# Altium footprint library CNCLib.PcbLib: 34 footprints (part 2 of 3)
Each footprint in its own frame and in the unit in brackets; x right, y up, seen from the top. Pads: shape width x height; smd on the part's side, far side on the other; paste and mask are expansions set on the pad; w line width, h text height; cw(c..) or ccw(c..) is an arc to the next point about the centre after c.
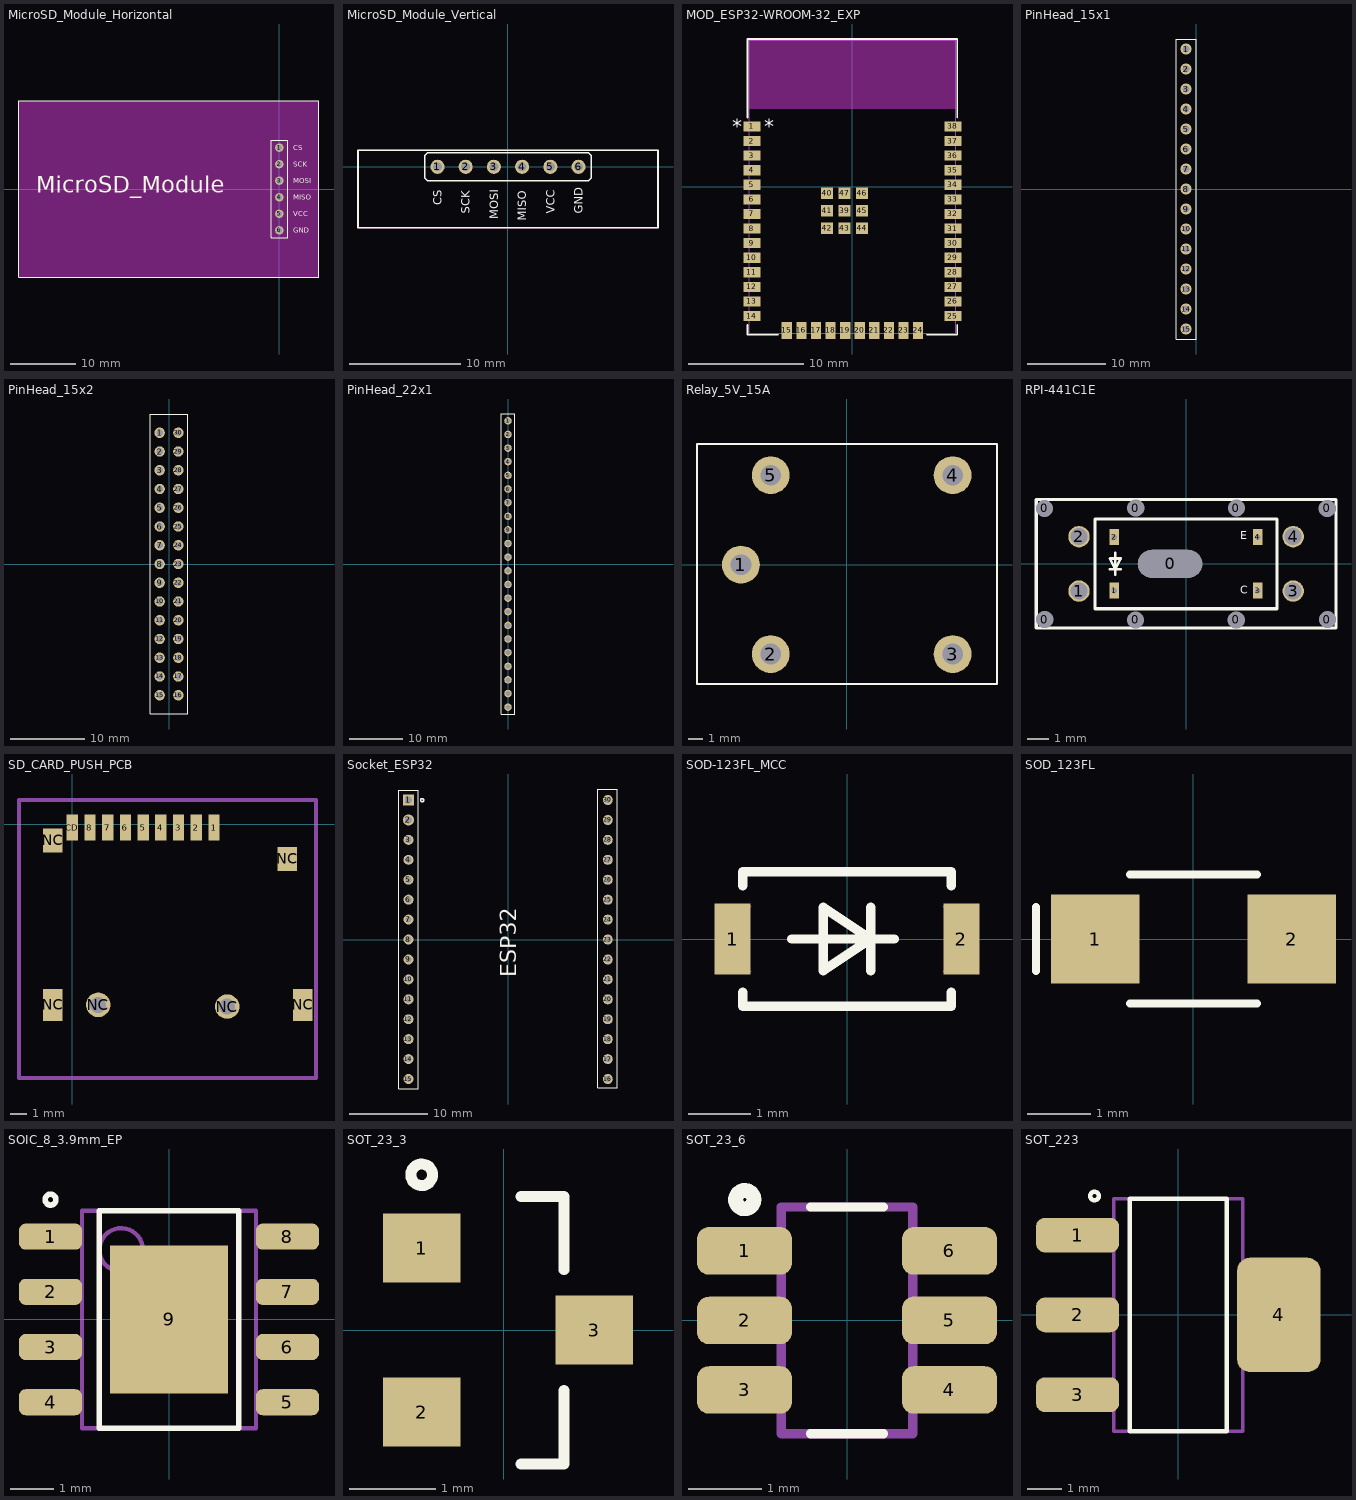
[diagram p1: the footprints below, top view; thin cyan lines are the x and y axes]

## MicroSD_Module_Horizontal [mm]
pads (6):
  round 1.27 hole 0.8: 1(0,6.35) 2(0,3.81) 3(0,1.27) 4(0,-1.27) 5(0,-3.81) 6(0,-6.35)
Top Overlay:
  lines w0.152: -40.005,-13.589 6.096,-13.589 6.096,13.589 -40.005,13.589 -40.005,-13.589 ; -1.27,-7.493 1.27,-7.493 1.27,7.493 -1.27,7.493 -1.27,-7.493
  text "GND" at 2.127,-6.731 h0.76
  text "VCC" at 2.127,-4.191 h0.76
  text "MISO" at 2.127,-1.651 h0.76
  text "MOSI" at 2.127,0.889 h0.76
  text "SCK" at 2.127,3.429 h0.76
  text "CS" at 2.127,5.969 h0.76
  text "MicroSD_Module" at -37.338,-0.593 h2.54
Keep-Out Layer:
  rectangle: -40,-13.5 6,13.5

## MicroSD_Module_Vertical [mm]
pads (6):
  round 1.27 hole 0.8: 1(-6.35,0) 2(-3.81,0) 3(-1.27,0) 4(1.27,0) 5(3.81,0) 6(6.35,0)
Top Overlay:
  lines w0.152: -13.5,-5.5 13.5,-5.5 13.5,1.5 -13.5,1.5 -13.5,-5.5 ; -7.493,-1.016 -7.239,-1.27 7.239,-1.27 7.493,-1.016 7.493,1.016 7.239,1.27 -7.239,1.27 -7.493,1.016 -7.493,-1.016
  text "CS" at -5.969,-3.461 h0.76
  text "SCK" at -3.429,-4.223 h0.76
  text "MOSI" at -0.889,-4.731 h0.76
  text "MISO" at 1.651,-4.858 h0.76
  text "VCC" at 4.191,-4.223 h0.76
  text "GND" at 6.731,-4.223 h0.76
Keep-Out Layer:
  lines w0.152: -13.5,-5.5 13.5,-5.5 13.5,1.5 -13.5,1.5 -13.5,-5.5

## MOD_ESP32-WROOM-32_EXP [mil]
pads (47):
  rect 59x35 smd paste+0 mask+0: 1(-344.49,207.09) 2(-344.49,157.09) 3(-344.49,107.09) 4(-344.49,57.09) 5(-344.49,7.09) 6(-344.49,-42.91) 7(-344.49,-92.91) 8(-344.49,-142.91) 9(-344.49,-192.91) 10(-344.49,-242.91) 11(-344.49,-292.91) 12(-344.49,-342.91) 13(-344.49,-392.91) 14(-344.49,-442.91) 25(344.49,-442.91) 26(344.49,-392.91) 27(344.49,-342.91) 28(344.49,-292.91) 29(344.49,-242.91) 30(344.49,-192.91) 31(344.49,-142.91) 32(344.49,-92.91) 33(344.49,-42.91) 34(344.49,7.09) 35(344.49,57.09) 36(344.49,107.09) 37(344.49,157.09) 38(344.49,207.09)
  rect 35x59 smd paste+0 mask+0: 15(-225,-492.13) 16(-175,-492.13) 17(-125,-492.13) 18(-75,-492.13) 19(-25,-492.13) 20(25,-492.13) 21(75,-492.13) 22(125,-492.13) 23(175,-492.13) 24(225,-492.13)
  rect 41x41 smd paste+0 mask+0: 39(-26.77,-81.89) 40(-86.81,-21.85) 41(-86.81,-81.89) 42(-86.81,-141.93) 43(-26.77,-141.93) 44(33.27,-141.93) 45(33.27,-81.89) 46(33.27,-21.85) 47(-26.77,-21.85)
Top Overlay:
  lines w6: -359.5,-473.51 -359.5,-507 -255.6,-507 ; -359.5,237.69 -359.5,507 359.5,507 359.5,237.69 ; 255.6,-507 359.5,-507 359.5,-473.51
  text "*" at -302.49,182.09 h50
  text "*" at -411.49,182.09 h50
Keep-Out Layer:
  region: 354.5,502 -354.5,502 -354.5,268 354.5,268
Top 3D Body:
  lines w1: -354.5,-502 -354.5,502 354.5,502 354.5,-502 -354.5,-502
3D body "ESP32-WROOM-32-N4.STEP": height 127.95, standoff 0, extent -354.33,-501.97 354.33,501.97

## PinHead_15x1 [mm]
pads (15):
  round 1.408 hole 0.9: 1(-1.27,17.78) 2(-1.27,15.24) 3(-1.27,12.7) 4(-1.27,10.16) 5(-1.27,7.62) 6(-1.27,5.08) 7(-1.27,2.54) 8(-1.27,0) 9(-1.27,-2.54) 10(-1.27,-5.08) 11(-1.27,-7.62) 12(-1.27,-10.16) 13(-1.27,-12.7) 14(-1.27,-15.24) 15(-1.27,-17.78)
Top Overlay:
  lines w0.127: -2.54,-19.05 0,-19.05 0,19.05 -2.54,19.05 -2.54,-19.05

## PinHead_15x2 [mm]
pads (30):
  round 1.408 hole 0.9: 1(-1.27,17.78) 2(-1.27,15.24) 3(-1.27,12.7) 4(-1.27,10.16) 5(-1.27,7.62) 6(-1.27,5.08) 7(-1.27,2.54) 8(-1.27,0) 9(-1.27,-2.54) 10(-1.27,-5.08) 11(-1.27,-7.62) 12(-1.27,-10.16) 13(-1.27,-12.7) 14(-1.27,-15.24) 15(-1.27,-17.78) 16(1.27,-17.78) 17(1.27,-15.24) 18(1.27,-12.7) 19(1.27,-10.16) 20(1.27,-7.62) 21(1.27,-5.08) 22(1.27,-2.54) 23(1.27,0) 24(1.27,2.54) 25(1.27,5.08) 26(1.27,7.62) 27(1.27,10.16) 28(1.27,12.7) 29(1.27,15.24) 30(1.27,17.78)
Top Overlay:
  lines w0.152: -2.54,-20.32 2.54,-20.32 2.54,20.32 -2.54,20.32 -2.54,-20.32

## PinHead_22x1 [mm]
pads (22):
  round 1.408 hole 0.9: 1(0,26.67) 2(0,24.13) 3(0,21.59) 4(0,19.05) 5(0,16.51) 6(0,13.97) 7(0,11.43) 8(0,8.89) 9(0,6.35) 10(0,3.81) 11(0,1.27) 12(0,-1.27) 13(0,-3.81) 14(0,-6.35) 15(0,-8.89) 16(0,-11.43) 17(0,-13.97) 18(0,-16.51) 19(0,-19.05) 20(0,-21.59) 21(0,-24.13) 22(0,-26.67)
Top Overlay:
  lines w0.152: -1.27,-27.94 1.27,-27.94 1.27,27.94 -1.27,27.94 -1.27,-27.94

## Relay_5V_15A [mm]
pads (5):
  round 2.54 hole 1.397: 1(-7.1,0) 2(-5.1,-6) 3(7.1,-6) 4(7.1,6) 5(-5.1,6)
Top Overlay:
  lines w0.127: -10.045,-8.007 10.072,-8.007 10.072,8.097 -10.045,8.097 -10.045,-8.007
3D body "User Library-RELAY  12MMx12MM SQUARE.STEP": height 15.02, standoff -1.98, extent -10.102,-7.999 9.898,8.001

## RPI-441C1E [mm]
pads (17):
  round 0.7 hole 0.8 unplated mask+0.076: 0(-6.607,2.587) 0(-6.6,-2.6) 0(-2.357,-2.613) 0(-2.35,2.6) 0(2.343,-2.613) 0(2.35,2.6) 0(6.593,2.587) 0(6.6,-2.6)
  oval 3x1 hole 1.3 slot 3 at 0 deg unplated mask+0.076: 0(-0.75,0)
  round 1 hole 0.8 unplated mask+0.076: 1(-5,-1.27) 2(-5,1.27) 3(5,-1.27) 4(5,1.27)
  rect 0.45x0.75 hole 0.25 square mask+0.076: 1(-3.35,-1.25) 2(-3.35,1.25) 3(3.35,-1.25) 4(3.35,1.25)
Top Overlay:
  lines w0.127: -3.556,-0.254 -3.048,-0.254 ; -3.302,-0.508 -3.302,0.508 ; -3.556,0.254 -3.302,-0.254 -3.048,0.254 -3.556,0.254
  lines w0.152: -7,-3 7,-3 7,3 -7,3 -7,-3 ; -4.25,-2.1 4.25,-2.1 4.25,2.1 -4.25,2.1 -4.25,-2.1
  text "C" at 2.54,-1.397 h0.38
  text "E" at 2.54,1.143 h0.38
3D body "rpi-441c1.step": height 5.2, standoff -3.6, extent -4,-2.1 4,2.1

## SD_CARD_PUSH_PCB [mm]
pads (15):
  rect 0.7x1.6 smd: 1(8.8,-0.2) 2(7.7,-0.2) 3(6.6,-0.2) 4(5.5,-0.2) 5(4.4,-0.2) 6(3.3,-0.2) 7(2.2,-0.2) 8(1.1,-0.2) CD(0,-0.2)
  rect 1.2x2 smd: NC(-1.2,-11.2) NC(14.31,-11.2)
  rect 1.2x1.5 smd: NC(-1.2,-1) NC(13.335,-2.143)
  round 1.524 hole 1: NC(1.61,-11.2) NC(9.61,-11.303)
Mechanical 1:
  lines w0.254: -3.302,-15.748 15.113,-15.748 15.113,1.524 -3.302,1.524 -3.302,-15.748
3D body "TF-01A--3DModel-STEP-56544.STEP": height 2, standoff -0.45, extent -1.495,-15.22 14.605,-0.02

## Socket_ESP32 [mm]
pads (30):
  rect 1.408x1.408 / inner round 1.408 / far side rect 1.408x1.408 hole 0.9: 1(-12.7,17.78)
  round 1.408 hole 0.9: 2(-12.7,15.24)
  round 1.27 hole 0.8: 3(-12.7,12.7) 4(-12.7,10.16) 5(-12.7,7.62) 6(-12.7,5.08) 7(-12.7,2.54) 8(-12.7,0) 9(-12.7,-2.54) 10(-12.7,-5.08) 11(-12.7,-7.62) 12(-12.7,-10.16) 13(-12.7,-12.7) 14(-12.7,-15.24) 15(-12.7,-17.78) 16(12.7,-17.78) 17(12.7,-15.24) 18(12.7,-12.7) 19(12.7,-10.16) 20(12.7,-7.62) 21(12.7,-5.08) 22(12.7,-2.54) 23(12.7,0) 24(12.7,2.54) 25(12.7,5.08) 26(12.7,7.62) 27(12.7,10.16) 28(12.7,12.7) 29(12.7,15.24) 30(12.7,17.78)
Top Overlay:
  lines w0.152: -13.97,-19.05 -11.43,-19.05 -11.43,19.05 -13.97,19.05 -13.97,-19.05 ; 11.393,-18.918 13.933,-18.918 13.933,19.182 11.393,19.182 11.393,-18.918
  lines w0.2: -10.753,17.771 ccw(c-10.956,17.75) -10.752,17.75
  text "ESP32" at 1.016,-4.826 h2.03

## SOD-123FL_MCC [mil]
pads (2):
  rect 23x45 smd: 1(-72.5,0) 2(72.5,0)
Top Overlay:
  lines w6: -66,-33.6 -66,-42.5 66,-42.5 66,-33.6 ; -66,33.6 -66,42.5 66,42.5 66,33.6 ; -35,0 30,0 ; 15,-20 15,20 ; -15,-20 -15,20 15,0 -15,-20
Top 3D Body:
  lines w1: -61,-20.5 -76,-20.5 -76,20.5 -61,20.5 ; 61,-20.5 76,-20.5 76,20.5 61,20.5
3D body "SOD-123FL_MCC.step": height 75.24, standoff 0, extent -75.98,-37.48 75.98,37.48

## SOD_123FL [mm]
pads (2):
  rect 1.4x1.4 smd: 1(-1.55,0) 2(1.55,0)
Top Overlay:
  lines w0.127: -2.486,-0.508 -2.486,0.508 ; -1,-1.016 1,-1.016 ; -1,1.016 1,1.016
3D body "SOD-123F_LTF.step": height 1.09, standoff 0, extent -1.956,-1.003 1.956,1.003

## SOIC_8_3.9mm_EP [mm]
pads (9):
  rrect50% 1.45x0.6 smd: 1(-2.725,1.905) 2(-2.725,0.635) 3(-2.725,-0.635) 4(-2.725,-1.905) 5(2.725,-1.905) 6(2.725,-0.635) 7(2.725,0.635) 8(2.725,1.905)
  rect 2.71x3.4 smd: 9(0,0)
Top Overlay:
  circle w0.127: c-2.725,2.755 r0.125
  lines w0.127: -1.6,-2.5 1.6,-2.5 1.6,2.5 -1.6,2.5 -1.6,-2.5
Mechanical 1:
  circle w0.1: c-1.1,1.6 r0.5
  lines w0.1: -2,-2.5 -2,2.5 2,2.5 2,-2.5 -2,-2.5
3D body "step_temp.STEP": height 1.7, standoff 0, extent -3,-2.45 3,2.45

## SOT_23_3 [mm]
pads (3):
  rect 0.9x0.8 smd: 1(-0.95,0.95) 2(-0.95,-0.95) 3(1.05,0)
Top Overlay:
  circle w0.127: c-0.95,1.8 r0.125
  lines w0.127: 0.2,-1.55 0.7,-1.55 0.7,-0.7 ; 0.2,1.55 0.7,1.55 0.7,0.7
3D body "MMBT3904-7-F.step": height 1.12, standoff 0, extent -1.21,-1.5 1.21,1.5

## SOT_23_6 [mm]
height 1.45
pads (6):
  rrect50% 1.3x0.65 smd: 1(-1.4,0.95) 2(-1.4,0) 3(-1.4,-0.95) 4(1.4,-0.95) 5(1.4,0) 6(1.4,0.95)
Top Overlay:
  circle w0.203: c-1.397,1.651 r0.125
  lines w0.127: -0.5,-1.55 0.5,-1.55 ; -0.5,1.55 0.5,1.55
Mechanical 1:
  lines w0.127: -0.9,-1.55 -0.9,1.55 0.9,1.55 0.9,-1.55 -0.9,-1.55
3D body "SOT23-6-2.step": height 1.45, standoff 0, extent -1.501,-1.45 1.299,1.45

## SOT_223 [mm]
height 1.45
pads (4):
  rrect50% 2.4x1 smd: 1(-2.9,2.3) 2(-2.9,0) 3(-2.9,-2.3)
  rrect30% 2.4x3.3 smd: 4(2.9,0)
Top Overlay:
  circle w0.127: c-2.413,3.429 r0.125
  lines w0.127: -1.4,-3.35 -1.4,3.35 1.4,3.35 1.4,-3.35 -1.4,-3.35
Mechanical 1:
  lines w0.1: -1.855,-3.35 -1.855,3.35 1.855,3.35 1.855,-3.35 -1.855,-3.35
3D body: height 1.8, standoff 0.03, extent -1.855,-3.35 1.855,3.35